# Altium footprint library RT8462_NetTie.PcbLib: 1 footprints
Each footprint in its own frame and in the unit in brackets; x right, y up, seen from the top. Pads: shape width x height; smd on the part's side, far side on the other; paste and mask are expansions set on the pad; w line width, h text height; cw(c..) or ccw(c..) is an arc to the next point about the centre after c.
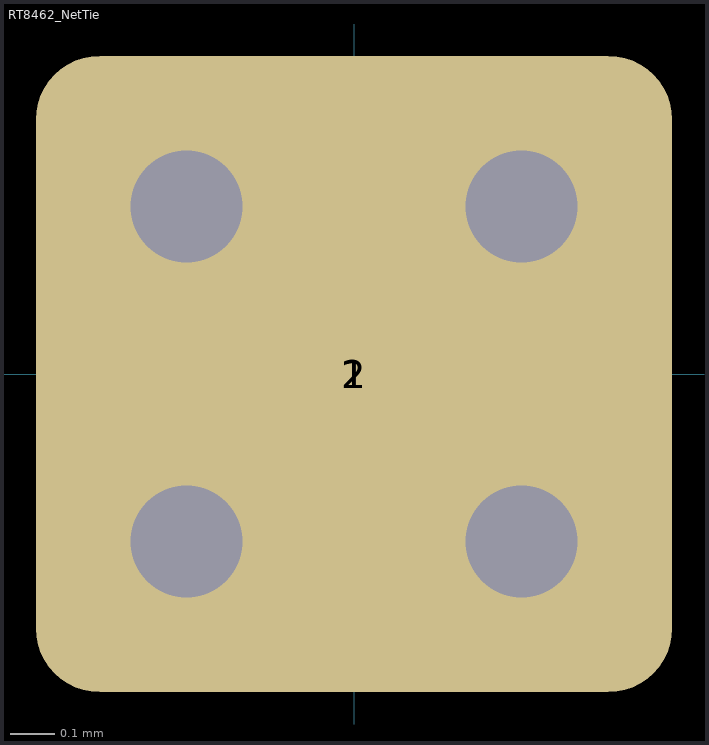
[diagram p0: the footprint, top view; thin cyan lines are the x and y axes]

## RT8462_NetTie [mil] "Net Tie for RT8462 Driver"
pads (3):
  rrect20% 57x57 smd mask+1.97: 1(0,0)
  rrect20% 57x57 on Mid2 paste-99 mask-99: 1(0,0)
  rrect20% 57x57 on Mid1 paste-99 mask-99: 2(0,0)
via -15,15 diameter 20 hole 10
via -15,-15 diameter 20 hole 10
via 15,-15 diameter 20 hole 10
via 15,15 diameter 20 hole 10